# EAGLE library part INVERTER._X2 (library my_devices)
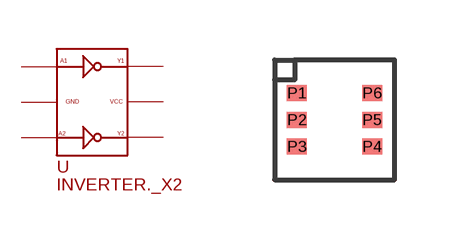
[diagram p18: symbol with the pads of SC70; footprint SC70]

Designator prefix U

## INVERTER._X2  [SC70]
P1  A1
P2  GND  pwr
P3  A2
P4  Y2
P5  VCC  pwr
P6  Y1

## Footprint SC70 (pad centres in mm)
smd 0.5 x 0.4: P1 -0.94,0.67; P2 -0.94,0; P3 -0.94,-0.67; P4 0.94,-0.67; P5 0.94,0; P6 0.94,0.67